# EAGLE library part FSUSB42MUX (library bc_custom)
USB Switch ICs Low Power, Two-Port USB 2.0 (480Mbps)
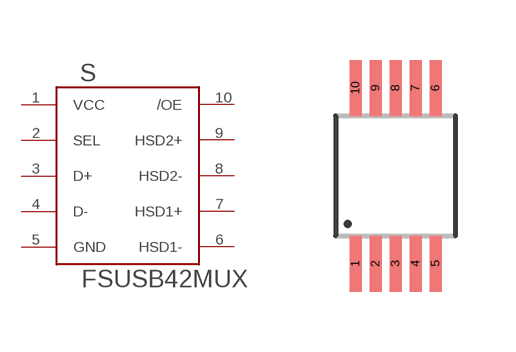
[diagram p4: symbol with the pads of FSUSB42MUX; footprint FSUSB42MUX]

Designator prefix S

## FSUSB42MUX  [FSUSB42MUX]
1  VCC
2  SEL
3  D+
4  D-
5  GND
6  HSD1-
7  HSD1+
8  HSD2-
9  HSD2+
10  /OE

## Footprint FSUSB42MUX (pad centres in mm)
smd 0.3 x 1.4: 1 -1,-2.2; 2 -0.5,-2.2; 3 0,-2.2; 4 0.5,-2.2; 5 1,-2.2; 6 1,2.2; 7 0.5,2.2; 8 0,2.2; 9 -0.5,2.2; 10 -1,2.2